# Altium schematic symbol library Schlib1.SchLib: 2 symbols
Pins are listed as number, name and electrical type; pins without a type are passive.

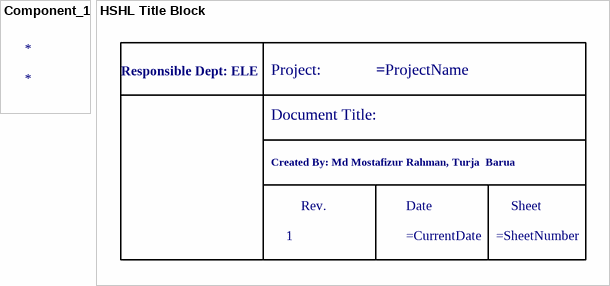
[diagram p0: symbols Component_1 to HSHL Title Block]

## Component_1
designator *

## HSHL Title Block
designator *  (value not drawn)  (graphical)
text: Responsible Dept: ELE; Project:; Document Title:; Created By: Md Mostafizur Rahman, Turja  Barua; Rev.; Date; Sheet; 1